# EAGLE library part CART (library playpower)
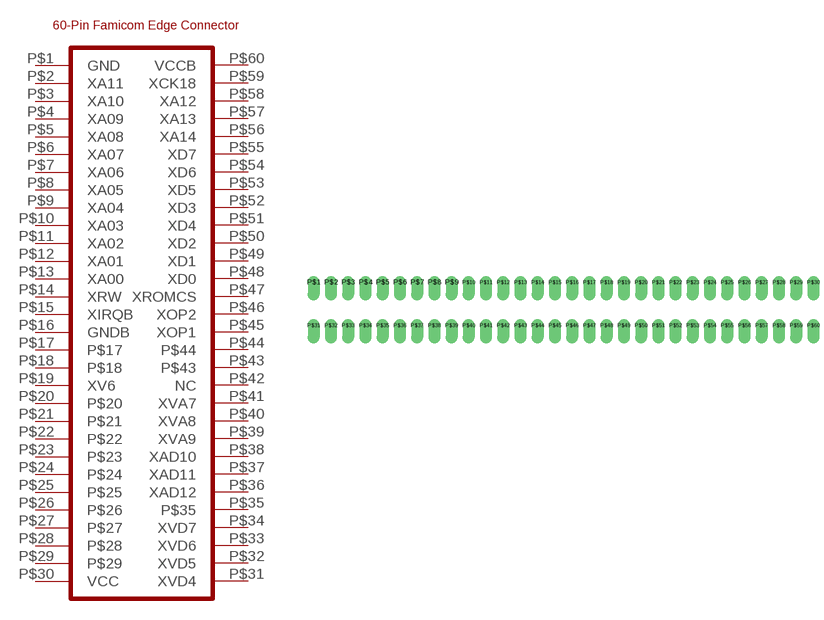
[diagram p0: symbol with the pads of CART; footprint CART]

Designator prefix -

## CART  [CART]
P$1  GND
P$2  XA11
P$3  XA10
P$4  XA09
P$5  XA08
P$6  XA07
P$7  XA06
P$8  XA05
P$9  XA04
P$10  XA03
P$11  XA02
P$12  XA01
P$13  XA00
P$14  XRW
P$15  XIRQB
P$16  GNDB
P$17  P$17
P$18  P$18
P$19  XV6
P$20  P$20
P$21  P$21
P$22  P$22
P$23  P$23
P$24  P$24
P$25  P$25
P$26  P$26
P$27  P$27
P$28  P$28
P$29  P$29
P$30  VCC
P$31  XVD4
P$32  XVD5
P$33  XVD6
P$34  XVD7
P$35  P$35
P$36  XAD12
P$37  XAD11
P$38  XAD10
P$39  XVA9
P$40  XVA8
P$41  XVA7
P$42  NC
P$43  P$43
P$44  P$44
P$45  XOP1
P$46  XOP2
P$47  XROMCS
P$48  XD0
P$49  XD1
P$50  XD2
P$51  XD4
P$52  XD3
P$53  XD5
P$54  XD6
P$55  XD7
P$56  XA14
P$57  XA13
P$58  XA12
P$59  XCK18
P$60  VCCB

## Footprint CART (pad centres in mm)
drill 1.2 offset: P$1 -38.1,0; P$2 -35.56,0; P$3 -33.02,0; P$4 -30.48,0; P$5 -27.94,0; P$6 -25.4,0; P$7 -22.86,0; P$8 -20.32,0; P$9 -17.78,0; P$10 -15.24,0; P$11 -12.7,0; P$12 -10.16,0; P$13 -7.62,0; P$14 -5.08,0; P$15 -2.54,0; P$16 0,0; P$17 2.54,0; P$18 5.08,0; P$19 7.62,0; P$20 10.16,0; P$21 12.7,0; P$22 15.24,0; P$23 17.78,0; P$24 20.32,0; P$25 22.86,0; P$26 25.4,0; P$27 27.94,0; P$28 30.48,0; P$29 33.02,0; P$30 35.56,0; P$31 -38.1,-6.35; P$32 -35.56,-6.35; P$33 -33.02,-6.35; P$34 -30.48,-6.35; P$35 -27.94,-6.35; P$36 -25.4,-6.35; P$37 -22.86,-6.35; P$38 -20.32,-6.35; P$39 -17.78,-6.35; P$40 -15.24,-6.35; P$41 -12.7,-6.35; P$42 -10.16,-6.35; P$43 -7.62,-6.35; P$44 -5.08,-6.35; P$45 -2.54,-6.35; P$46 0,-6.35; P$47 2.54,-6.35; P$48 5.08,-6.35; P$49 7.62,-6.35; P$50 10.16,-6.35; P$51 12.7,-6.35; P$52 15.24,-6.35; P$53 17.78,-6.35; P$54 20.32,-6.35; P$55 22.86,-6.35; P$56 25.4,-6.35; P$57 27.94,-6.35; P$58 30.48,-6.35; P$59 33.02,-6.35; P$60 35.56,-6.35